# Altium schematic symbol library SCH - POWER - SWITCHMODE - TI TPS51120RHB.SchLib: 1 symbol
Pins are listed as number, name and electrical type; pins without a type are passive.

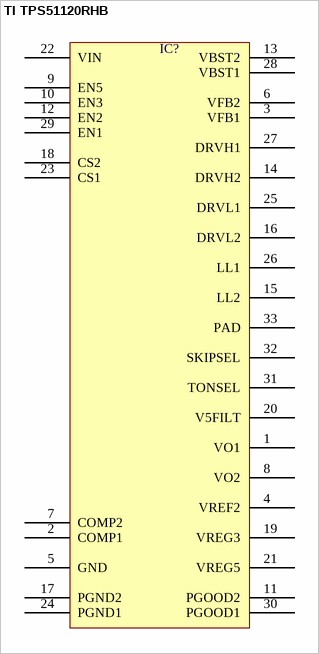
[diagram p0: symbol TI TPS51120RHB]

## TI TPS51120RHB
designator IC?  (value not drawn)
pins: 1 VO1, 2 COMP1, 3 VFB1, 4 VREF2, 5 GND, 6 VFB2, 7 COMP2, 8 VO2, 9 EN5, 10 EN3, 11 PGOOD2, 12 EN2, 13 VBST2, 14 DRVH2, 15 LL2, 16 DRVL2, 17 PGND2, 18 CS2, 19 VREG3, 20 V5FILT, 21 VREG5, 22 VIN, 23 CS1, 24 PGND1, 25 DRVL1, 26 LL1, 27 DRVH1, 28 VBST1, 29 EN1, 30 PGOOD1, 31 TONSEL, 32 SKIPSEL, 33 PAD